# Altium schematic symbol library Passive Sym Lib.SchLib: 12 symbols
Pins are listed as number, name and electrical type; pins without a type are passive.

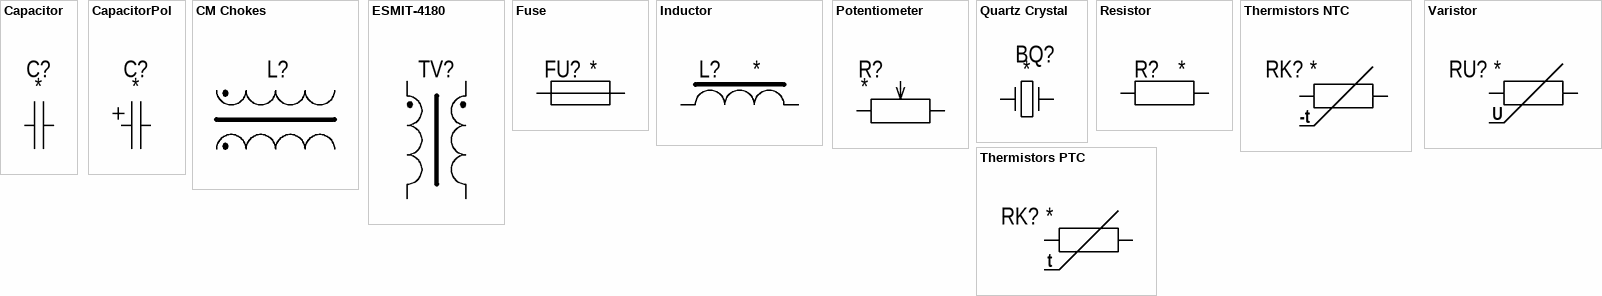
[diagram p0: symbols Capacitor to Varistor]

## Capacitor
designator C?
Tolerance: *; Value: *
pins: 1 "CapPin", 2 "CapPin"

## CapacitorPol
designator C?
Tolerance: *; Value: *
pins: 1 "PosCapPin", 2 "NegCapPin"

## CM Chokes
designator L?, comment Common mode chokes  (value not drawn)
footprint ON-Ph DR
pins: InA "First winding input pin", InB "Second winding Input pin", OutA "First winding output pin", OutB "Second winding output pin"

## ESMIT-4180
designator TV?  (value not drawn)
Tolerance: *
pins: 1 "CapPin", 2 "CapPin", 3 "CapPin", 4 "CapPin"

## Fuse
designator FU?
Voltage: *; Current: *
pins: 1 "ResPin", 2 "ResPin"

## Inductor
designator L?
Tolerance: *; Value: *
pins: 1 "CapPin", 2 "CapPin"
3 alternate drawings of the same symbol

## Potentiometer
designator R?
Tolerance: *; Value: *
pins: CCW Сounterclock-wise "ResPin", CW Clockwise "ResPin", WP Wiper

## Quartz Crystal
designator BQ?
Load Сapacitance: *; Value: *
pins: 1, 3, GND hidden

## Resistor
designator R?
Tolerance: *; Value: *
pins: 1 "ResPin", 2 "ResPin"

## Thermistors NTC
designator RK?
Value: *
pins: 1 "ResPin", 2 "ResPin"
1 alternate drawing of the same symbol
text: -t

## Thermistors PTC
designator RK?
Value: *
pins: 1 "ResPin", 2 "ResPin"
1 alternate drawing of the same symbol
text: t

## Varistor
designator RU?
Model: *
pins: 1 "ResPin", 2 "ResPin"
1 alternate drawing of the same symbol
text: U